# Altium footprint library 150CLZ.PcbLib: 1 footprints
Each footprint in its own frame and in the unit in brackets; x right, y up, seen from the top. Pads: shape width x height; smd on the part's side, far side on the other; paste and mask are expansions set on the pad; w line width, h text height; cw(c..) or ccw(c..) is an arc to the next point about the centre after c.
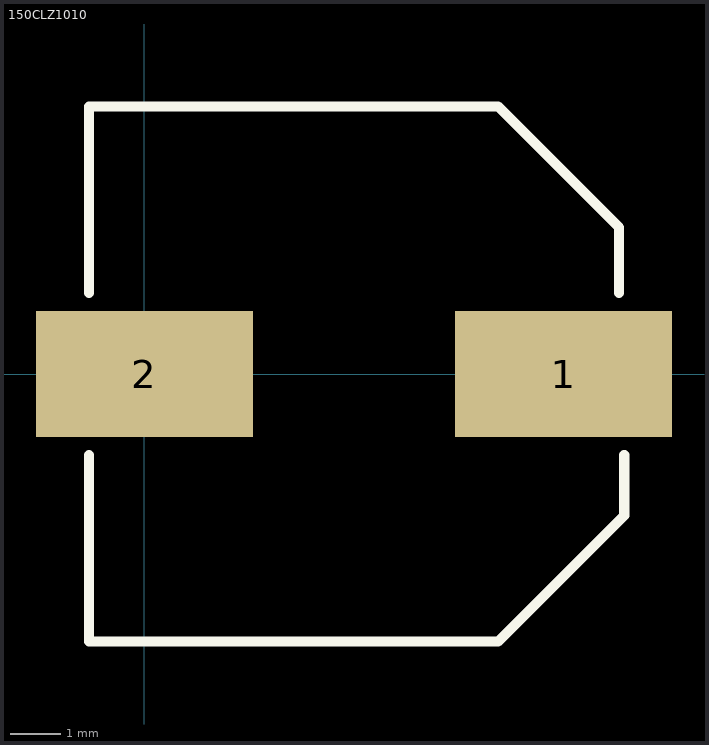
[diagram p0: the footprint, top view; thin cyan lines are the x and y axes]

## 150CLZ1010 [mm] "10x10x10 (LxWxH)"
height 10
pads (2):
  rect 4.3x2.5 smd: 1(8.3,0) 2(0,0)
Top Overlay:
  lines w0.2: -1.1,-1.6 -1.1,-5.3 7,-5.3 9.5,-2.8 9.5,-1.6 ; -1.1,1.6 -1.1,5.3 7,5.3 9.4,2.9 9.4,1.6
3D body: height 10.2, standoff 0, extent -1.8,-5.15 9.8,5.15